# EAGLE library part NJM2904 (library ic-jrc)
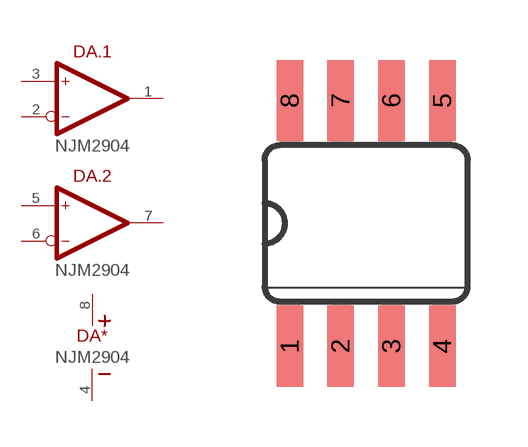
[diagram p1: symbol with the pads of SO-8; footprint SO-8]

Designator prefix DA; gates .1=OPAMP .2=OPAMP *=SUPPLY

## NJM2904M (MOUSER: 513-NJM2904M)  [SO-8]
1  .1:OUT  out
2  .1:IN-  in
3  .1:IN+  in
4  *:V-  pwr
5  .2:IN+  in
6  .2:IN-  in
7  .2:OUT  out
8  *:V+  pwr

## Footprint SO-8 (pad centres in mm)
smd 0.66 x 2.032: 1 -1.905,-3.073; 2 -0.635,-3.073; 3 0.635,-3.073; 4 1.905,-3.073; 5 1.905,3.073; 6 0.635,3.073; 7 -0.635,3.073; 8 -1.905,3.073